# EAGLE library part FT232R (library MF_Examples)
Manufacturer Part #: FT232R Manufacturer: FTDI Description: USB Interface IC USB to Serial UART IC Datasheet: Link <http://www.ftdichip.com/Support/Documents/DataSheets/ICs/DS_FT232R.pdf>
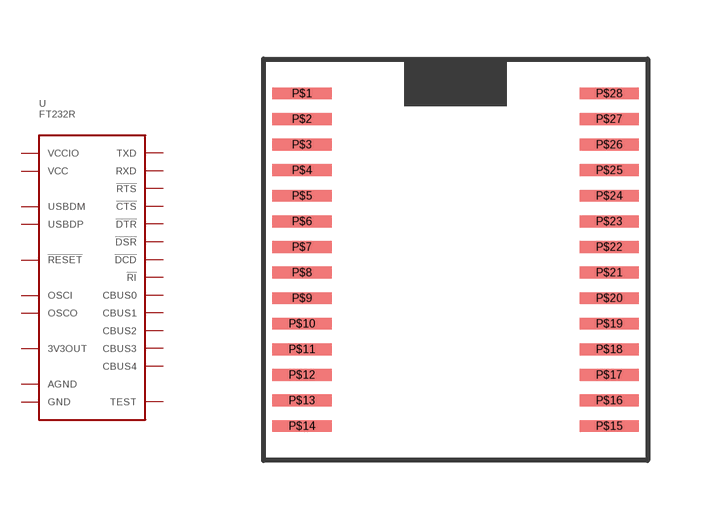
[diagram p0: symbol with the pads of SSOP28; footprint SSOP28]

Designator prefix U

## FT232RSSOP28 (HOUSEPART: NO; MPN: FT232RL-REEL; POPULATE: 1; URL: http://www.ftdichip.com/Support/Documents/DataSheets/ICs/DS_FT232R.pdf; VALUE: FT232RL-REEL)  [SSOP28]
P$1  TXD  out
P$2  !DTR  out
P$3  !RTS  out
P$4  VCCIO  pwr
P$5  RXD  in
P$6  !RI  in
P$7  GND  pwr
P$9  !DSR  in
P$10  !DCD  in
P$11  !CTS  in
P$12  CBUS4
P$13  CBUS2
P$14  CBUS3
P$15  USBDP
P$16  USBDM
P$17  3V3OUT  out
P$18  GND  pwr
P$19  !RESET  in
P$20  VCC  pwr
P$21  GND  pwr
P$22  CBUS1
P$23  CBUS0
P$25  AGND  pwr
P$26  TEST  in
P$27  OSCI  in
P$28  OSCO  out

## Footprint SSOP28 (pad centres in mm)
smd 1.5 x 0.3: P$1 -3.9,4.225; P$2 -3.9,3.575; P$3 -3.9,2.925; P$4 -3.9,2.275; P$5 -3.9,1.625; P$6 -3.9,0.975; P$7 -3.9,0.325; P$8 -3.9,-0.325; P$9 -3.9,-0.975; P$10 -3.9,-1.625; P$11 -3.9,-2.275; P$12 -3.9,-2.925; P$13 -3.9,-3.575; P$14 -3.9,-4.225; P$15 3.9,-4.225; P$16 3.9,-3.575; P$17 3.9,-2.925; P$18 3.9,-2.275; P$19 3.9,-1.625; P$20 3.9,-0.975; P$21 3.9,-0.325; P$22 3.9,0.325; P$23 3.9,0.975; P$24 3.9,1.625; P$25 3.9,2.275; P$26 3.9,2.925; P$27 3.9,3.575; P$28 3.9,4.225